# Altium integrated library Linear Technology Power Management Switching Regulator LT1074-LT8705.IntLib: 2252 symbols (part 77 of 148)
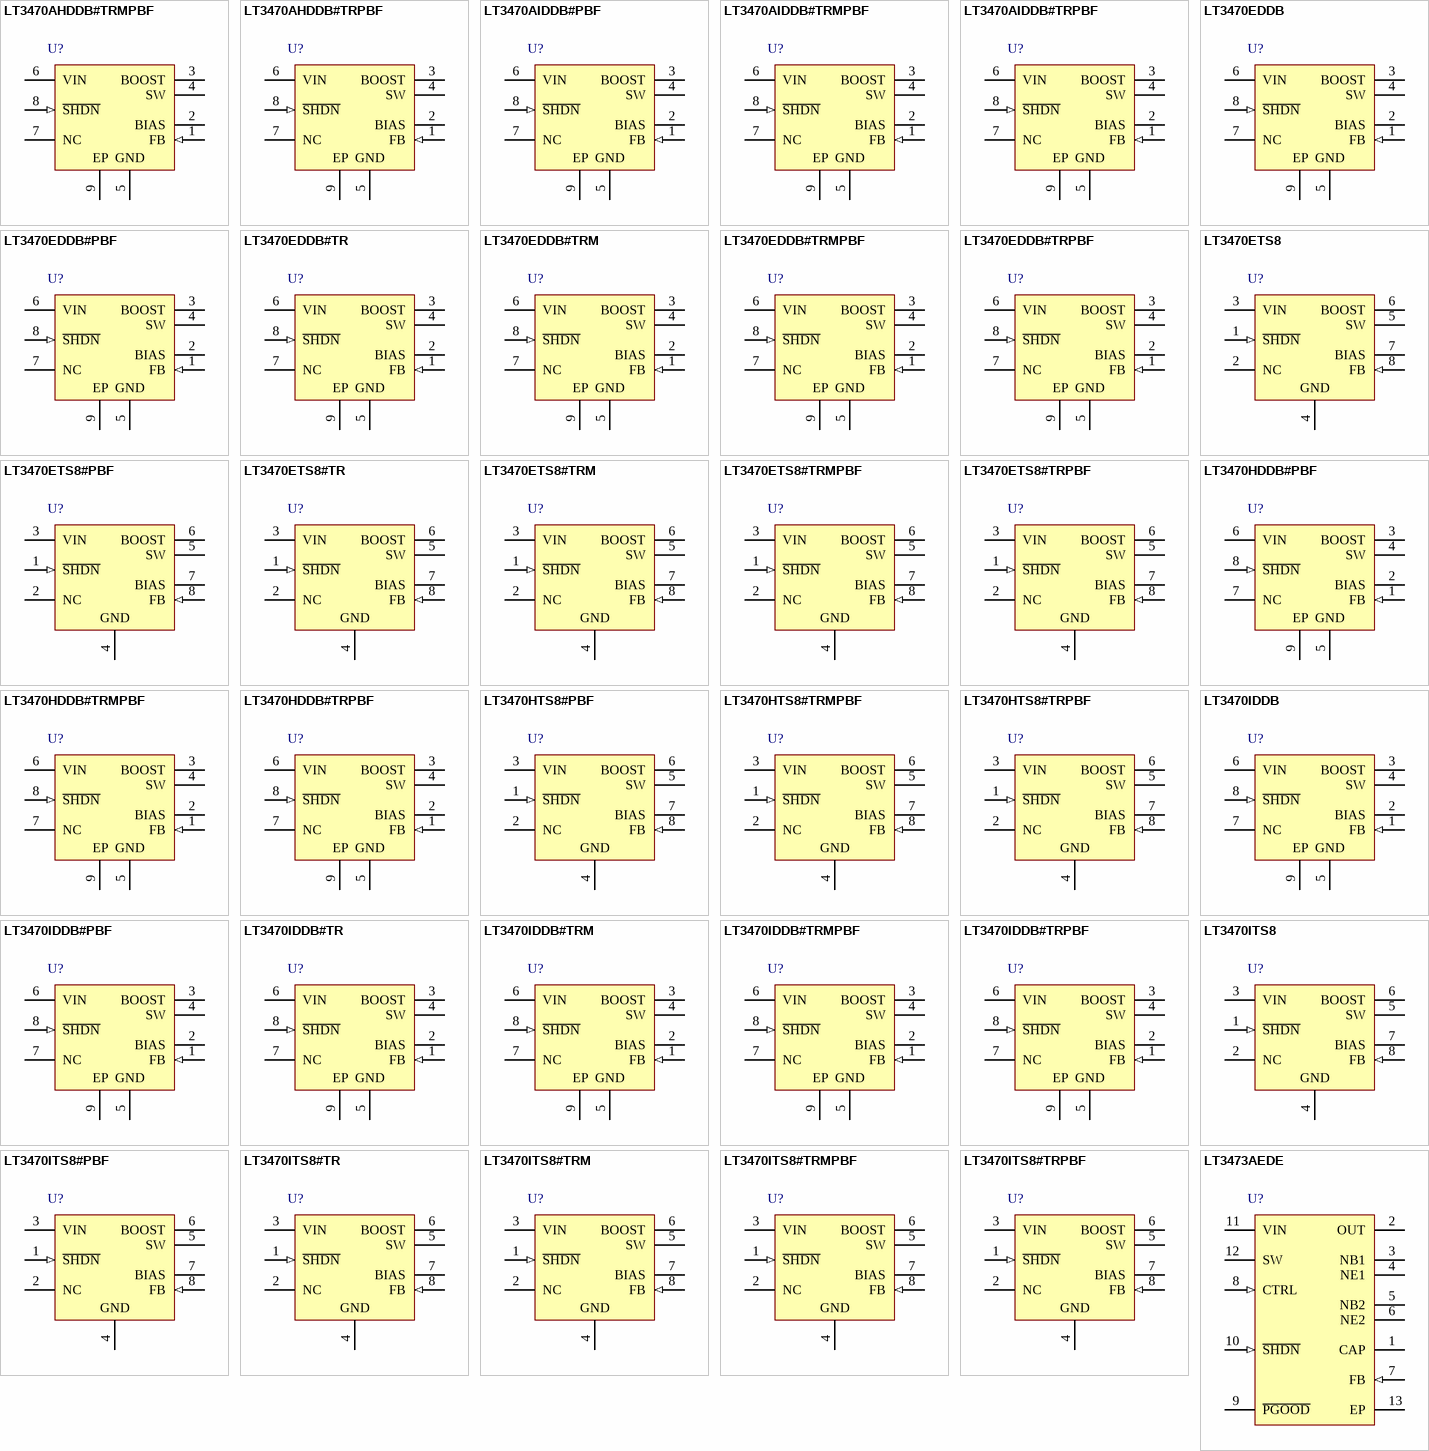
[diagram p147: symbols LT3470AHDDB#TRMPBF to LT3473AEDE]

## LT3470HTS8#PBF
designator U?
Micropower Buck Regulator with Integrated Boost and Catch Diode, 8-pin SOT23 (TS8-8), -40 to 150 degC, Pb-Free; Manufacturer: Linear Technology; PartNumber: LT3470HTS8#PBF; Number of Outputs: 1; DatasheetVersion: Rev. D; PackageVersion: Rev. A, 08/2010; PackageReference: TS8-8; PackageDescription: 8-Pin Plastic TSOT-23, Body 2.9 x 1.63 mm, Pitch 0.65 mm; Supplier 1: Newark; Supplier Part Number 1: 78T4007; RoHS: TRUE; Mounting Technology: Surface Mount; Code_JEDEC: MO-193; ComponentLink1Description: Manufacturer URL; ComponentLink1URL: http://www.linear.com/; ComponentLink2Description: Datasheet; ComponentLink2URL: http://cds.linear.com/docs/en/datasheet/3470fd.pdf; ComponentLink3Description: Package Specification; ComponentLink3URL: http://cds.linear.com/docs/en/packaging/SOT_8_05-08-1637.pdf
footprint LT-TS8-8-TSOT-23_V (SOT23, 8-Leads, Body 2.9x1.75mm, Pitch 0.65mm)
pins: 1 ~{SHDN} (in) "The S\H\D\N\ pin is used to put the LT3470 in shutdown mode. Tie to ground to shut down the LT3470A. Apply 2V or more for normal operation. If the shutdown feature is not used, tie this pin to the VIN pin.", 2 NC "This pin can be left floating, connected to VIN, or tied to GND.", 3 VIN (power) "The VIN pin supplies current to the LT3470’s internal regulator and to the internal power switch. This pin must be locally bypassed.", 4 GND (power) "Tie the GND pin to a local ground plane below the LT3470A and the circuit components. Return the feedback divider to this pin.", 5 SW (power) "The SW pin is the output of the internal power switch. Connect this pin to the inductor, catch diode and boost capacitor.", 6 BOOST "The BOOST pin is used to provide a drive voltage, which is higher than the input voltage, to the internal bipolar NPN power switch.", 7 BIAS (power) "The BIAS pin connects to the internal boost Schottky diode and to the internal regulator. Tie to VOUT when VOUT > 2.5V or to VIN otherwise. When VBIAS > 3V the BIAS pin will supply current to the internal regulator.", 8 FB (in) "The LT3470 regulates its feedback pin to 1.25V. Connect the feedback resistor divider tap to this pin. Set the output voltage according to VOUT = 1.25V (1 + R1/R2) or R1 = R2 (VOUT/1.25 - 1)."

## LT3470HTS8#TRMPBF
designator U?
Micropower Buck Regulator with Integrated Boost and Catch Diode, 8-pin SOT23 (TS8-8), -40 to 150 degC, Pb-Free, Mini Tape and Reel; Manufacturer: Linear Technology; PartNumber: LT3470HTS8#TRMPBF; Number of Outputs: 1; DatasheetVersion: Rev. D; PackageVersion: Rev. A, 08/2010; PackageReference: TS8-8; PackageDescription: 8-Pin Plastic TSOT-23, Body 2.9 x 1.63 mm, Pitch 0.65 mm; Supplier 1: Digi-Key; Supplier Part Number 1: LT3470HTS8#TRMPBF-ND; Supplier 2: Newark; Supplier Part Number 2: 57M8259; Packing: Mini Tape and Reel; RoHS: TRUE; Mounting Technology: Surface Mount; Code_JEDEC: MO-193; ComponentLink1Description: Manufacturer URL; ComponentLink1URL: http://www.linear.com/; ComponentLink2Description: Datasheet; ComponentLink2URL: http://cds.linear.com/docs/en/datasheet/3470fd.pdf; ComponentLink3Description: Package Specification; ComponentLink3URL: http://cds.linear.com/docs/en/packaging/SOT_8_05-08-1637.pdf
footprint LT-TS8-8-TSOT-23_V (SOT23, 8-Leads, Body 2.9x1.75mm, Pitch 0.65mm)
pins: 1 ~{SHDN} (in) "The S\H\D\N\ pin is used to put the LT3470 in shutdown mode. Tie to ground to shut down the LT3470A. Apply 2V or more for normal operation. If the shutdown feature is not used, tie this pin to the VIN pin.", 2 NC "This pin can be left floating, connected to VIN, or tied to GND.", 3 VIN (power) "The VIN pin supplies current to the LT3470’s internal regulator and to the internal power switch. This pin must be locally bypassed.", 4 GND (power) "Tie the GND pin to a local ground plane below the LT3470A and the circuit components. Return the feedback divider to this pin.", 5 SW (power) "The SW pin is the output of the internal power switch. Connect this pin to the inductor, catch diode and boost capacitor.", 6 BOOST "The BOOST pin is used to provide a drive voltage, which is higher than the input voltage, to the internal bipolar NPN power switch.", 7 BIAS (power) "The BIAS pin connects to the internal boost Schottky diode and to the internal regulator. Tie to VOUT when VOUT > 2.5V or to VIN otherwise. When VBIAS > 3V the BIAS pin will supply current to the internal regulator.", 8 FB (in) "The LT3470 regulates its feedback pin to 1.25V. Connect the feedback resistor divider tap to this pin. Set the output voltage according to VOUT = 1.25V (1 + R1/R2) or R1 = R2 (VOUT/1.25 - 1)."

## LT3470HTS8#TRPBF
designator U?
Micropower Buck Regulator with Integrated Boost and Catch Diode, 8-pin SOT23 (TS8-8), -40 to 150 degC, Pb-Free, Tape and Reel; Manufacturer: Linear Technology; PartNumber: LT3470HTS8#TRPBF; Number of Outputs: 1; DatasheetVersion: Rev. D; PackageVersion: Rev. A, 08/2010; PackageReference: TS8-8; PackageDescription: 8-Pin Plastic TSOT-23, Body 2.9 x 1.63 mm, Pitch 0.65 mm; Supplier 1: Digi-Key; Supplier Part Number 1: LT3470HTS8#TRPBF-ND; Packing: Tape and Reel; RoHS: TRUE; Mounting Technology: Surface Mount; Code_JEDEC: MO-193; ComponentLink1Description: Manufacturer URL; ComponentLink1URL: http://www.linear.com/; ComponentLink2Description: Datasheet; ComponentLink2URL: http://cds.linear.com/docs/en/datasheet/3470fd.pdf; ComponentLink3Description: Package Specification; ComponentLink3URL: http://cds.linear.com/docs/en/packaging/SOT_8_05-08-1637.pdf
footprint LT-TS8-8-TSOT-23_V (SOT23, 8-Leads, Body 2.9x1.75mm, Pitch 0.65mm)
pins: 1 ~{SHDN} (in) "The S\H\D\N\ pin is used to put the LT3470 in shutdown mode. Tie to ground to shut down the LT3470A. Apply 2V or more for normal operation. If the shutdown feature is not used, tie this pin to the VIN pin.", 2 NC "This pin can be left floating, connected to VIN, or tied to GND.", 3 VIN (power) "The VIN pin supplies current to the LT3470’s internal regulator and to the internal power switch. This pin must be locally bypassed.", 4 GND (power) "Tie the GND pin to a local ground plane below the LT3470A and the circuit components. Return the feedback divider to this pin.", 5 SW (power) "The SW pin is the output of the internal power switch. Connect this pin to the inductor, catch diode and boost capacitor.", 6 BOOST "The BOOST pin is used to provide a drive voltage, which is higher than the input voltage, to the internal bipolar NPN power switch.", 7 BIAS (power) "The BIAS pin connects to the internal boost Schottky diode and to the internal regulator. Tie to VOUT when VOUT > 2.5V or to VIN otherwise. When VBIAS > 3V the BIAS pin will supply current to the internal regulator.", 8 FB (in) "The LT3470 regulates its feedback pin to 1.25V. Connect the feedback resistor divider tap to this pin. Set the output voltage according to VOUT = 1.25V (1 + R1/R2) or R1 = R2 (VOUT/1.25 - 1)."

## LT3470IDDB
designator U?
Micropower Buck Regulator with Integrated Boost and Catch Diode, 8-pin SON (DDB-8), -40 to 125 degC; Manufacturer: Linear Technology; PartNumber: LT3470IDDB; Number of Outputs: 1; DatasheetVersion: Rev. D; PackageVersion: Rev. B, 06/2010; PackageReference: DDB-8; PackageDescription: 8-Pin Plastic DFN, Body 3 x 2 mm, Pitch 0.5 mm; RoHS: FALSE; Mounting Technology: Surface Mount; Code_JEDEC: MO-229; ComponentLink1Description: Manufacturer URL; ComponentLink1URL: http://www.linear.com/; ComponentLink2Description: Datasheet; ComponentLink2URL: http://cds.linear.com/docs/en/datasheet/3470fd.pdf; ComponentLink3Description: Package Specification; ComponentLink3URL: http://cds.linear.com/docs/en/packaging/DFN_8_05-08-1702.pdf
footprint LT-DDB-8_V (SON, 8-Leads, Body 3x2mm, Pitch 0.5mm, Thermal Pad 2.2x0.61mm)
pins: 1 FB (in) "The LT3470X regulates its feedback pin to 1.25V. Connect the feedback resistor divider tap to this pin. Set the output voltage according to VOUT = 1.25V (1 + R1/R2) or R1 = R2 (VOUT/1.25 - 1).", 2 BIAS (power) "The BIAS pin connects to the internal boost Schottky diode and to the internal regulator. Tie to VOUT when VOUT > 2.5V or to VIN otherwise. When VBIAS > 3V the BIAS pin will supply current to the internal regulator.", 3 BOOST "The BOOST pin is used to provide a drive voltage, which is higher than the input voltage, to the internal bipolar NPN power switch.", 4 SW (power) "The SW pin is the output of the internal power switch. Connect this pin to the inductor, catch diode and boost capacitor.", 5 GND (power) "Tie the GND pin to a local ground plane below the LT3470X and the circuit components. Return the feedback divider to this pin.", 6 VIN (power) "The VIN pin supplies current to the LT3470X’s internal regulator and to the internal power switch. This pin must be locally bypassed.", 7 NC "This pin can be left floating, connected to VIN, or tied to GND.", 8 ~{SHDN} (in) "The S\H\D\N\ pin is used to put the LT3470X in shutdown mode. Tie to ground to shut down the LT3470A. Apply 2V or more for normal operation. If the shutdown feature is not used, tie this pin to the VIN pin.", 9 EP (power) "Ground. Must be soldered to PCB."

## LT3470IDDB#PBF
designator U?
Micropower Buck Regulator with Integrated Boost and Catch Diode, 8-pin SON (DDB-8), -40 to 125 degC, Pb-Free; Manufacturer: Linear Technology; PartNumber: LT3470IDDB#PBF; Number of Outputs: 1; DatasheetVersion: Rev. D; PackageVersion: Rev. B, 06/2010; PackageReference: DDB-8; PackageDescription: 8-Pin Plastic DFN, Body 3 x 2 mm, Pitch 0.5 mm; RoHS: TRUE; Mounting Technology: Surface Mount; Code_JEDEC: MO-229; ComponentLink1Description: Manufacturer URL; ComponentLink1URL: http://www.linear.com/; ComponentLink2Description: Datasheet; ComponentLink2URL: http://cds.linear.com/docs/en/datasheet/3470fd.pdf; ComponentLink3Description: Package Specification; ComponentLink3URL: http://cds.linear.com/docs/en/packaging/DFN_8_05-08-1702.pdf
footprint LT-DDB-8_V (SON, 8-Leads, Body 3x2mm, Pitch 0.5mm, Thermal Pad 2.2x0.61mm)
pins: 1 FB (in) "The LT3470X regulates its feedback pin to 1.25V. Connect the feedback resistor divider tap to this pin. Set the output voltage according to VOUT = 1.25V (1 + R1/R2) or R1 = R2 (VOUT/1.25 - 1).", 2 BIAS (power) "The BIAS pin connects to the internal boost Schottky diode and to the internal regulator. Tie to VOUT when VOUT > 2.5V or to VIN otherwise. When VBIAS > 3V the BIAS pin will supply current to the internal regulator.", 3 BOOST "The BOOST pin is used to provide a drive voltage, which is higher than the input voltage, to the internal bipolar NPN power switch.", 4 SW (power) "The SW pin is the output of the internal power switch. Connect this pin to the inductor, catch diode and boost capacitor.", 5 GND (power) "Tie the GND pin to a local ground plane below the LT3470X and the circuit components. Return the feedback divider to this pin.", 6 VIN (power) "The VIN pin supplies current to the LT3470X’s internal regulator and to the internal power switch. This pin must be locally bypassed.", 7 NC "This pin can be left floating, connected to VIN, or tied to GND.", 8 ~{SHDN} (in) "The S\H\D\N\ pin is used to put the LT3470X in shutdown mode. Tie to ground to shut down the LT3470A. Apply 2V or more for normal operation. If the shutdown feature is not used, tie this pin to the VIN pin.", 9 EP (power) "Ground. Must be soldered to PCB."

## LT3470IDDB#TR
designator U?
Micropower Buck Regulator with Integrated Boost and Catch Diode, 8-pin SON (DDB-8), -40 to 125 degC, Tape and Reel; Manufacturer: Linear Technology; PartNumber: LT3470IDDB#TR; Number of Outputs: 1; DatasheetVersion: Rev. D; PackageVersion: Rev. B, 06/2010; PackageReference: DDB-8; PackageDescription: 8-Pin Plastic DFN, Body 3 x 2 mm, Pitch 0.5 mm; Packing: Tape and Reel; RoHS: FALSE; Mounting Technology: Surface Mount; Code_JEDEC: MO-229; ComponentLink1Description: Manufacturer URL; ComponentLink1URL: http://www.linear.com/; ComponentLink2Description: Datasheet; ComponentLink2URL: http://cds.linear.com/docs/en/datasheet/3470fd.pdf; ComponentLink3Description: Package Specification; ComponentLink3URL: http://cds.linear.com/docs/en/packaging/DFN_8_05-08-1702.pdf
footprint LT-DDB-8_V (SON, 8-Leads, Body 3x2mm, Pitch 0.5mm, Thermal Pad 2.2x0.61mm)
pins: 1 FB (in) "The LT3470X regulates its feedback pin to 1.25V. Connect the feedback resistor divider tap to this pin. Set the output voltage according to VOUT = 1.25V (1 + R1/R2) or R1 = R2 (VOUT/1.25 - 1).", 2 BIAS (power) "The BIAS pin connects to the internal boost Schottky diode and to the internal regulator. Tie to VOUT when VOUT > 2.5V or to VIN otherwise. When VBIAS > 3V the BIAS pin will supply current to the internal regulator.", 3 BOOST "The BOOST pin is used to provide a drive voltage, which is higher than the input voltage, to the internal bipolar NPN power switch.", 4 SW (power) "The SW pin is the output of the internal power switch. Connect this pin to the inductor, catch diode and boost capacitor.", 5 GND (power) "Tie the GND pin to a local ground plane below the LT3470X and the circuit components. Return the feedback divider to this pin.", 6 VIN (power) "The VIN pin supplies current to the LT3470X’s internal regulator and to the internal power switch. This pin must be locally bypassed.", 7 NC "This pin can be left floating, connected to VIN, or tied to GND.", 8 ~{SHDN} (in) "The S\H\D\N\ pin is used to put the LT3470X in shutdown mode. Tie to ground to shut down the LT3470A. Apply 2V or more for normal operation. If the shutdown feature is not used, tie this pin to the VIN pin.", 9 EP (power) "Ground. Must be soldered to PCB."

## LT3470IDDB#TRM
designator U?
Micropower Buck Regulator with Integrated Boost and Catch Diode, 8-pin SON (DDB-8), -40 to 125 degC, Mini Tape and Reel; Manufacturer: Linear Technology; PartNumber: LT3470IDDB#TRM; Number of Outputs: 1; DatasheetVersion: Rev. D; PackageVersion: Rev. B, 06/2010; PackageReference: DDB-8; PackageDescription: 8-Pin Plastic DFN, Body 3 x 2 mm, Pitch 0.5 mm; Packing: Mini Tape and Reel; RoHS: FALSE; Mounting Technology: Surface Mount; Code_JEDEC: MO-229; ComponentLink1Description: Manufacturer URL; ComponentLink1URL: http://www.linear.com/; ComponentLink2Description: Datasheet; ComponentLink2URL: http://cds.linear.com/docs/en/datasheet/3470fd.pdf; ComponentLink3Description: Package Specification; ComponentLink3URL: http://cds.linear.com/docs/en/packaging/DFN_8_05-08-1702.pdf
footprint LT-DDB-8_V (SON, 8-Leads, Body 3x2mm, Pitch 0.5mm, Thermal Pad 2.2x0.61mm)
pins: 1 FB (in) "The LT3470X regulates its feedback pin to 1.25V. Connect the feedback resistor divider tap to this pin. Set the output voltage according to VOUT = 1.25V (1 + R1/R2) or R1 = R2 (VOUT/1.25 - 1).", 2 BIAS (power) "The BIAS pin connects to the internal boost Schottky diode and to the internal regulator. Tie to VOUT when VOUT > 2.5V or to VIN otherwise. When VBIAS > 3V the BIAS pin will supply current to the internal regulator.", 3 BOOST "The BOOST pin is used to provide a drive voltage, which is higher than the input voltage, to the internal bipolar NPN power switch.", 4 SW (power) "The SW pin is the output of the internal power switch. Connect this pin to the inductor, catch diode and boost capacitor.", 5 GND (power) "Tie the GND pin to a local ground plane below the LT3470X and the circuit components. Return the feedback divider to this pin.", 6 VIN (power) "The VIN pin supplies current to the LT3470X’s internal regulator and to the internal power switch. This pin must be locally bypassed.", 7 NC "This pin can be left floating, connected to VIN, or tied to GND.", 8 ~{SHDN} (in) "The S\H\D\N\ pin is used to put the LT3470X in shutdown mode. Tie to ground to shut down the LT3470A. Apply 2V or more for normal operation. If the shutdown feature is not used, tie this pin to the VIN pin.", 9 EP (power) "Ground. Must be soldered to PCB."

## LT3470IDDB#TRMPBF
designator U?
Micropower Buck Regulator with Integrated Boost and Catch Diode, 8-pin SON (DDB-8), -40 to 125 degC, Pb-Free, Mini Tape and Reel; Manufacturer: Linear Technology; PartNumber: LT3470IDDB#TRMPBF; Number of Outputs: 1; DatasheetVersion: Rev. D; PackageVersion: Rev. B, 06/2010; PackageReference: DDB-8; PackageDescription: 8-Pin Plastic DFN, Body 3 x 2 mm, Pitch 0.5 mm; Supplier 1: Digi-Key; Supplier Part Number 1: LT3470IDDB#TRMPBFTR-ND; Supplier 2: Digi-Key; Supplier Part Number 2: LT3470IDDB#TRMPBFCT-ND; Supplier 3: Digi-Key; Supplier Part Number 3: LT3470IDDB#TRMPBFDKR-ND; Supplier 4: Newark; Supplier Part Number 4: 57M8263; Packing: Mini Tape and Reel; RoHS: TRUE; Mounting Technology: Surface Mount; Code_JEDEC: MO-229; ComponentLink1Description: Manufacturer URL; ComponentLink1URL: http://www.linear.com/; ComponentLink2Description: Datasheet; ComponentLink2URL: http://cds.linear.com/docs/en/datasheet/3470fd.pdf; ComponentLink3Description: Package Specification; ComponentLink3URL: http://cds.linear.com/docs/en/packaging/DFN_8_05-08-1702.pdf
footprint LT-DDB-8_V (SON, 8-Leads, Body 3x2mm, Pitch 0.5mm, Thermal Pad 2.2x0.61mm)
pins: 1 FB (in) "The LT3470X regulates its feedback pin to 1.25V. Connect the feedback resistor divider tap to this pin. Set the output voltage according to VOUT = 1.25V (1 + R1/R2) or R1 = R2 (VOUT/1.25 - 1).", 2 BIAS (power) "The BIAS pin connects to the internal boost Schottky diode and to the internal regulator. Tie to VOUT when VOUT > 2.5V or to VIN otherwise. When VBIAS > 3V the BIAS pin will supply current to the internal regulator.", 3 BOOST "The BOOST pin is used to provide a drive voltage, which is higher than the input voltage, to the internal bipolar NPN power switch.", 4 SW (power) "The SW pin is the output of the internal power switch. Connect this pin to the inductor, catch diode and boost capacitor.", 5 GND (power) "Tie the GND pin to a local ground plane below the LT3470X and the circuit components. Return the feedback divider to this pin.", 6 VIN (power) "The VIN pin supplies current to the LT3470X’s internal regulator and to the internal power switch. This pin must be locally bypassed.", 7 NC "This pin can be left floating, connected to VIN, or tied to GND.", 8 ~{SHDN} (in) "The S\H\D\N\ pin is used to put the LT3470X in shutdown mode. Tie to ground to shut down the LT3470A. Apply 2V or more for normal operation. If the shutdown feature is not used, tie this pin to the VIN pin.", 9 EP (power) "Ground. Must be soldered to PCB."

## LT3470IDDB#TRPBF
designator U?
Micropower Buck Regulator with Integrated Boost and Catch Diode, 8-pin SON (DDB-8), -40 to 125 degC, Pb-Free, Tape and Reel; Manufacturer: Linear Technology; PartNumber: LT3470IDDB#TRPBF; Number of Outputs: 1; DatasheetVersion: Rev. D; PackageVersion: Rev. B, 06/2010; PackageReference: DDB-8; PackageDescription: 8-Pin Plastic DFN, Body 3 x 2 mm, Pitch 0.5 mm; Supplier 1: Digi-Key; Supplier Part Number 1: LT3470IDDB#TRPBF-ND; Supplier 2: Newark; Supplier Part Number 2: 57M8264; Packing: Tape and Reel; RoHS: TRUE; Mounting Technology: Surface Mount; Code_JEDEC: MO-229; ComponentLink1Description: Manufacturer URL; ComponentLink1URL: http://www.linear.com/; ComponentLink2Description: Datasheet; ComponentLink2URL: http://cds.linear.com/docs/en/datasheet/3470fd.pdf; ComponentLink3Description: Package Specification; ComponentLink3URL: http://cds.linear.com/docs/en/packaging/DFN_8_05-08-1702.pdf
footprint LT-DDB-8_V (SON, 8-Leads, Body 3x2mm, Pitch 0.5mm, Thermal Pad 2.2x0.61mm)
pins: 1 FB (in) "The LT3470X regulates its feedback pin to 1.25V. Connect the feedback resistor divider tap to this pin. Set the output voltage according to VOUT = 1.25V (1 + R1/R2) or R1 = R2 (VOUT/1.25 - 1).", 2 BIAS (power) "The BIAS pin connects to the internal boost Schottky diode and to the internal regulator. Tie to VOUT when VOUT > 2.5V or to VIN otherwise. When VBIAS > 3V the BIAS pin will supply current to the internal regulator.", 3 BOOST "The BOOST pin is used to provide a drive voltage, which is higher than the input voltage, to the internal bipolar NPN power switch.", 4 SW (power) "The SW pin is the output of the internal power switch. Connect this pin to the inductor, catch diode and boost capacitor.", 5 GND (power) "Tie the GND pin to a local ground plane below the LT3470X and the circuit components. Return the feedback divider to this pin.", 6 VIN (power) "The VIN pin supplies current to the LT3470X’s internal regulator and to the internal power switch. This pin must be locally bypassed.", 7 NC "This pin can be left floating, connected to VIN, or tied to GND.", 8 ~{SHDN} (in) "The S\H\D\N\ pin is used to put the LT3470X in shutdown mode. Tie to ground to shut down the LT3470A. Apply 2V or more for normal operation. If the shutdown feature is not used, tie this pin to the VIN pin.", 9 EP (power) "Ground. Must be soldered to PCB."

## LT3470ITS8
designator U?
Micropower Buck Regulator with Integrated Boost and Catch Diode, 8-pin SOT23 (TS8-8), -40 to 125 degC; Manufacturer: Linear Technology; PartNumber: LT3470ITS8; Number of Outputs: 1; DatasheetVersion: Rev. D; PackageVersion: Rev. A, 08/2010; PackageReference: TS8-8; PackageDescription: 8-Pin Plastic TSOT-23, Body 2.9 x 1.63 mm, Pitch 0.65 mm; RoHS: FALSE; Mounting Technology: Surface Mount; Code_JEDEC: MO-193; ComponentLink1Description: Manufacturer URL; ComponentLink1URL: http://www.linear.com/; ComponentLink2Description: Datasheet; ComponentLink2URL: http://cds.linear.com/docs/en/datasheet/3470fd.pdf; ComponentLink3Description: Package Specification; ComponentLink3URL: http://cds.linear.com/docs/en/packaging/SOT_8_05-08-1637.pdf
footprint LT-TS8-8-TSOT-23_V (SOT23, 8-Leads, Body 2.9x1.75mm, Pitch 0.65mm)
pins: 1 ~{SHDN} (in) "The S\H\D\N\ pin is used to put the LT3470 in shutdown mode. Tie to ground to shut down the LT3470A. Apply 2V or more for normal operation. If the shutdown feature is not used, tie this pin to the VIN pin.", 2 NC "This pin can be left floating, connected to VIN, or tied to GND.", 3 VIN (power) "The VIN pin supplies current to the LT3470’s internal regulator and to the internal power switch. This pin must be locally bypassed.", 4 GND (power) "Tie the GND pin to a local ground plane below the LT3470A and the circuit components. Return the feedback divider to this pin.", 5 SW (power) "The SW pin is the output of the internal power switch. Connect this pin to the inductor, catch diode and boost capacitor.", 6 BOOST "The BOOST pin is used to provide a drive voltage, which is higher than the input voltage, to the internal bipolar NPN power switch.", 7 BIAS (power) "The BIAS pin connects to the internal boost Schottky diode and to the internal regulator. Tie to VOUT when VOUT > 2.5V or to VIN otherwise. When VBIAS > 3V the BIAS pin will supply current to the internal regulator.", 8 FB (in) "The LT3470 regulates its feedback pin to 1.25V. Connect the feedback resistor divider tap to this pin. Set the output voltage according to VOUT = 1.25V (1 + R1/R2) or R1 = R2 (VOUT/1.25 - 1)."

## LT3470ITS8#PBF
designator U?
Micropower Buck Regulator with Integrated Boost and Catch Diode, 8-pin SOT23 (TS8-8), -40 to 125 degC, Pb-Free; Manufacturer: Linear Technology; PartNumber: LT3470ITS8#PBF; Number of Outputs: 1; DatasheetVersion: Rev. D; PackageVersion: Rev. A, 08/2010; PackageReference: TS8-8; PackageDescription: 8-Pin Plastic TSOT-23, Body 2.9 x 1.63 mm, Pitch 0.65 mm; Supplier 1: Newark; Supplier Part Number 1: 61M3375; RoHS: TRUE; Mounting Technology: Surface Mount; Code_JEDEC: MO-193; ComponentLink1Description: Manufacturer URL; ComponentLink1URL: http://www.linear.com/; ComponentLink2Description: Datasheet; ComponentLink2URL: http://cds.linear.com/docs/en/datasheet/3470fd.pdf; ComponentLink3Description: Package Specification; ComponentLink3URL: http://cds.linear.com/docs/en/packaging/SOT_8_05-08-1637.pdf
footprint LT-TS8-8-TSOT-23_V (SOT23, 8-Leads, Body 2.9x1.75mm, Pitch 0.65mm)
pins: 1 ~{SHDN} (in) "The S\H\D\N\ pin is used to put the LT3470 in shutdown mode. Tie to ground to shut down the LT3470A. Apply 2V or more for normal operation. If the shutdown feature is not used, tie this pin to the VIN pin.", 2 NC "This pin can be left floating, connected to VIN, or tied to GND.", 3 VIN (power) "The VIN pin supplies current to the LT3470’s internal regulator and to the internal power switch. This pin must be locally bypassed.", 4 GND (power) "Tie the GND pin to a local ground plane below the LT3470A and the circuit components. Return the feedback divider to this pin.", 5 SW (power) "The SW pin is the output of the internal power switch. Connect this pin to the inductor, catch diode and boost capacitor.", 6 BOOST "The BOOST pin is used to provide a drive voltage, which is higher than the input voltage, to the internal bipolar NPN power switch.", 7 BIAS (power) "The BIAS pin connects to the internal boost Schottky diode and to the internal regulator. Tie to VOUT when VOUT > 2.5V or to VIN otherwise. When VBIAS > 3V the BIAS pin will supply current to the internal regulator.", 8 FB (in) "The LT3470 regulates its feedback pin to 1.25V. Connect the feedback resistor divider tap to this pin. Set the output voltage according to VOUT = 1.25V (1 + R1/R2) or R1 = R2 (VOUT/1.25 - 1)."

## LT3470ITS8#TR
designator U?
Micropower Buck Regulator with Integrated Boost and Catch Diode, 8-pin SOT23 (TS8-8), -40 to 125 degC, Tape and Reel; Manufacturer: Linear Technology; PartNumber: LT3470ITS8#TR; Number of Outputs: 1; DatasheetVersion: Rev. D; PackageVersion: Rev. A, 08/2010; PackageReference: TS8-8; PackageDescription: 8-Pin Plastic TSOT-23, Body 2.9 x 1.63 mm, Pitch 0.65 mm; Packing: Tape and Reel; RoHS: FALSE; Mounting Technology: Surface Mount; Code_JEDEC: MO-193; ComponentLink1Description: Manufacturer URL; ComponentLink1URL: http://www.linear.com/; ComponentLink2Description: Datasheet; ComponentLink2URL: http://cds.linear.com/docs/en/datasheet/3470fd.pdf; ComponentLink3Description: Package Specification; ComponentLink3URL: http://cds.linear.com/docs/en/packaging/SOT_8_05-08-1637.pdf
footprint LT-TS8-8-TSOT-23_V (SOT23, 8-Leads, Body 2.9x1.75mm, Pitch 0.65mm)
pins: 1 ~{SHDN} (in) "The S\H\D\N\ pin is used to put the LT3470 in shutdown mode. Tie to ground to shut down the LT3470A. Apply 2V or more for normal operation. If the shutdown feature is not used, tie this pin to the VIN pin.", 2 NC "This pin can be left floating, connected to VIN, or tied to GND.", 3 VIN (power) "The VIN pin supplies current to the LT3470’s internal regulator and to the internal power switch. This pin must be locally bypassed.", 4 GND (power) "Tie the GND pin to a local ground plane below the LT3470A and the circuit components. Return the feedback divider to this pin.", 5 SW (power) "The SW pin is the output of the internal power switch. Connect this pin to the inductor, catch diode and boost capacitor.", 6 BOOST "The BOOST pin is used to provide a drive voltage, which is higher than the input voltage, to the internal bipolar NPN power switch.", 7 BIAS (power) "The BIAS pin connects to the internal boost Schottky diode and to the internal regulator. Tie to VOUT when VOUT > 2.5V or to VIN otherwise. When VBIAS > 3V the BIAS pin will supply current to the internal regulator.", 8 FB (in) "The LT3470 regulates its feedback pin to 1.25V. Connect the feedback resistor divider tap to this pin. Set the output voltage according to VOUT = 1.25V (1 + R1/R2) or R1 = R2 (VOUT/1.25 - 1)."

## LT3470ITS8#TRM
designator U?
Micropower Buck Regulator with Integrated Boost and Catch Diode, 8-pin SOT23 (TS8-8), -40 to 125 degC, Mini Tape and Reel; Manufacturer: Linear Technology; PartNumber: LT3470ITS8#TRM; Number of Outputs: 1; DatasheetVersion: Rev. D; PackageVersion: Rev. A, 08/2010; PackageReference: TS8-8; PackageDescription: 8-Pin Plastic TSOT-23, Body 2.9 x 1.63 mm, Pitch 0.65 mm; Packing: Mini Tape and Reel; RoHS: FALSE; Mounting Technology: Surface Mount; Code_JEDEC: MO-193; ComponentLink1Description: Manufacturer URL; ComponentLink1URL: http://www.linear.com/; ComponentLink2Description: Datasheet; ComponentLink2URL: http://cds.linear.com/docs/en/datasheet/3470fd.pdf; ComponentLink3Description: Package Specification; ComponentLink3URL: http://cds.linear.com/docs/en/packaging/SOT_8_05-08-1637.pdf
footprint LT-TS8-8-TSOT-23_V (SOT23, 8-Leads, Body 2.9x1.75mm, Pitch 0.65mm)
pins: 1 ~{SHDN} (in) "The S\H\D\N\ pin is used to put the LT3470 in shutdown mode. Tie to ground to shut down the LT3470A. Apply 2V or more for normal operation. If the shutdown feature is not used, tie this pin to the VIN pin.", 2 NC "This pin can be left floating, connected to VIN, or tied to GND.", 3 VIN (power) "The VIN pin supplies current to the LT3470’s internal regulator and to the internal power switch. This pin must be locally bypassed.", 4 GND (power) "Tie the GND pin to a local ground plane below the LT3470A and the circuit components. Return the feedback divider to this pin.", 5 SW (power) "The SW pin is the output of the internal power switch. Connect this pin to the inductor, catch diode and boost capacitor.", 6 BOOST "The BOOST pin is used to provide a drive voltage, which is higher than the input voltage, to the internal bipolar NPN power switch.", 7 BIAS (power) "The BIAS pin connects to the internal boost Schottky diode and to the internal regulator. Tie to VOUT when VOUT > 2.5V or to VIN otherwise. When VBIAS > 3V the BIAS pin will supply current to the internal regulator.", 8 FB (in) "The LT3470 regulates its feedback pin to 1.25V. Connect the feedback resistor divider tap to this pin. Set the output voltage according to VOUT = 1.25V (1 + R1/R2) or R1 = R2 (VOUT/1.25 - 1)."

## LT3470ITS8#TRMPBF
designator U?
Micropower Buck Regulator with Integrated Boost and Catch Diode, 8-pin SOT23 (TS8-8), -40 to 125 degC, Pb-Free, Mini Tape and Reel; Manufacturer: Linear Technology; PartNumber: LT3470ITS8#TRMPBF; Number of Outputs: 1; DatasheetVersion: Rev. D; PackageVersion: Rev. A, 08/2010; PackageReference: TS8-8; PackageDescription: 8-Pin Plastic TSOT-23, Body 2.9 x 1.63 mm, Pitch 0.65 mm; Supplier 1: Digi-Key; Supplier Part Number 1: LT3470ITS8#TRMPBFTR-ND; Supplier 2: Digi-Key; Supplier Part Number 2: LT3470ITS8#TRMPBFCT-ND; Supplier 3: Digi-Key; Supplier Part Number 3: LT3470ITS8#TRMPBFDKR-ND; Supplier 4: Farnell; Supplier Part Number 4: 1663833; Supplier 5: Farnell; Supplier Part Number 5: 1663833RL; Supplier 6: Newark; Supplier Part Number 6: 57M8267; Packing: Mini Tape and Reel; RoHS: TRUE; Mounting Technology: Surface Mount; Code_JEDEC: MO-193; ComponentLink1Description: Manufacturer URL; ComponentLink1URL: http://www.linear.com/; ComponentLink2Description: Datasheet; ComponentLink2URL: http://cds.linear.com/docs/en/datasheet/3470fd.pdf; ComponentLink3Description: Package Specification; ComponentLink3URL: http://cds.linear.com/docs/en/packaging/SOT_8_05-08-1637.pdf
footprint LT-TS8-8-TSOT-23_V (SOT23, 8-Leads, Body 2.9x1.75mm, Pitch 0.65mm)
pins: 1 ~{SHDN} (in) "The S\H\D\N\ pin is used to put the LT3470 in shutdown mode. Tie to ground to shut down the LT3470A. Apply 2V or more for normal operation. If the shutdown feature is not used, tie this pin to the VIN pin.", 2 NC "This pin can be left floating, connected to VIN, or tied to GND.", 3 VIN (power) "The VIN pin supplies current to the LT3470’s internal regulator and to the internal power switch. This pin must be locally bypassed.", 4 GND (power) "Tie the GND pin to a local ground plane below the LT3470A and the circuit components. Return the feedback divider to this pin.", 5 SW (power) "The SW pin is the output of the internal power switch. Connect this pin to the inductor, catch diode and boost capacitor.", 6 BOOST "The BOOST pin is used to provide a drive voltage, which is higher than the input voltage, to the internal bipolar NPN power switch.", 7 BIAS (power) "The BIAS pin connects to the internal boost Schottky diode and to the internal regulator. Tie to VOUT when VOUT > 2.5V or to VIN otherwise. When VBIAS > 3V the BIAS pin will supply current to the internal regulator.", 8 FB (in) "The LT3470 regulates its feedback pin to 1.25V. Connect the feedback resistor divider tap to this pin. Set the output voltage according to VOUT = 1.25V (1 + R1/R2) or R1 = R2 (VOUT/1.25 - 1)."

## LT3470ITS8#TRPBF
designator U?
Micropower Buck Regulator with Integrated Boost and Catch Diode, 8-pin SOT23 (TS8-8), -40 to 125 degC, Pb-Free, Tape and Reel; Manufacturer: Linear Technology; PartNumber: LT3470ITS8#TRPBF; Number of Outputs: 1; DatasheetVersion: Rev. D; PackageVersion: Rev. A, 08/2010; PackageReference: TS8-8; PackageDescription: 8-Pin Plastic TSOT-23, Body 2.9 x 1.63 mm, Pitch 0.65 mm; Supplier 1: Digi-Key; Supplier Part Number 1: LT3470ITS8#TRPBF-ND; Supplier 2: Newark; Supplier Part Number 2: 57M8268; Packing: Tape and Reel; RoHS: TRUE; Mounting Technology: Surface Mount; Code_JEDEC: MO-193; ComponentLink1Description: Manufacturer URL; ComponentLink1URL: http://www.linear.com/; ComponentLink2Description: Datasheet; ComponentLink2URL: http://cds.linear.com/docs/en/datasheet/3470fd.pdf; ComponentLink3Description: Package Specification; ComponentLink3URL: http://cds.linear.com/docs/en/packaging/SOT_8_05-08-1637.pdf
footprint LT-TS8-8-TSOT-23_V (SOT23, 8-Leads, Body 2.9x1.75mm, Pitch 0.65mm)
pins: 1 ~{SHDN} (in) "The S\H\D\N\ pin is used to put the LT3470 in shutdown mode. Tie to ground to shut down the LT3470A. Apply 2V or more for normal operation. If the shutdown feature is not used, tie this pin to the VIN pin.", 2 NC "This pin can be left floating, connected to VIN, or tied to GND.", 3 VIN (power) "The VIN pin supplies current to the LT3470’s internal regulator and to the internal power switch. This pin must be locally bypassed.", 4 GND (power) "Tie the GND pin to a local ground plane below the LT3470A and the circuit components. Return the feedback divider to this pin.", 5 SW (power) "The SW pin is the output of the internal power switch. Connect this pin to the inductor, catch diode and boost capacitor.", 6 BOOST "The BOOST pin is used to provide a drive voltage, which is higher than the input voltage, to the internal bipolar NPN power switch.", 7 BIAS (power) "The BIAS pin connects to the internal boost Schottky diode and to the internal regulator. Tie to VOUT when VOUT > 2.5V or to VIN otherwise. When VBIAS > 3V the BIAS pin will supply current to the internal regulator.", 8 FB (in) "The LT3470 regulates its feedback pin to 1.25V. Connect the feedback resistor divider tap to this pin. Set the output voltage according to VOUT = 1.25V (1 + R1/R2) or R1 = R2 (VOUT/1.25 - 1)."

## LT3473AEDE
designator U?
Micropower 1 A Boost Converter with Schottky and Output Disconnect, Includes Two NPN Transistors for Generating Intermediate Bias Voltage Max, 12-pin SON (DE-12), -40 to 85 degC; Manufacturer: Linear Technology; PartNumber: LT3473AEDE; Number of Outputs: 1; PackageReference: DE-12; PackageDescription: 12-Pin Plastic DFN, Body 4 x 3 mm, Pitch 0.5 mm; RoHS: FALSE; Mounting Technology: Surface Mount; Code_JEDEC: MO-229; ComponentLink1Description: Manufacturer URL; ComponentLink1URL: http://www.linear.com/; ComponentLink2Description: Datasheet; ComponentLink2URL: http://cds.linear.com/docs/en/datasheet/3473f.pdf; ComponentLink3Description: Package Specification; ComponentLink3URL: http://cds.linear.com/docs/en/datasheet/3473f.pdf
footprint LT-DE-12-05-08-1708_V (SON, 12-Leads, Body 4x3mm, Pitch 0.5mm, Thermal Pad 3.3x1.7mm)
pins: 1 CAP "Internal Output Voltage. This pin is the Schottky cathode and disconnect PNP emitter. Connect output capacitor here.", 2 OUT "Output of Disconnect Circuit. Bypass this pin with capacitor to ground.", 3 NB1 "NPN1 Base.", 4 NE1 "NPN1 Emitter.", 5 NB2 "NPN2 Base.", 6 NE2 "NPN2 Emitter.", 7 FB (in) "Feedback Pin. Pin voltage is regulated to 1.25V if internal reference is used or to the CTRL pin voltage if the CTRL pin voltage is between 0V and 1.25V. Connect the fee", 8 CTRL (in) "External Reference Pin. This pin sets the FB voltage externally between 0V and 1.25V. Tie this pin 1.5V or higher to use the internal 1.25V reference.", 9 ~{PGOOD} (oc) "Power Good Output. Open collector logic output that starts to sink current when FB reaches within 100mV of the reference voltage.", 10 ~{SHDN} (in) "Shutdown Pin. Connect to 1.4V or higher to enable device; 0.2V or less to disable device. Also functions as soft-start. Use RC filter as shown in Figure 4.", 11 VIN (power) "Input Supply Pin. Must be locally bypassed with a X5R or X7R type ceramic capacitor.", 12 SW "Switch Pin. Connect inductor here. Minimize the metal trace area connected to the pin to minimize EMI.", 13 EP (power) "Ground. Solder directly to PCB ground plane through multiple vias under the package for optimum thermal performance."

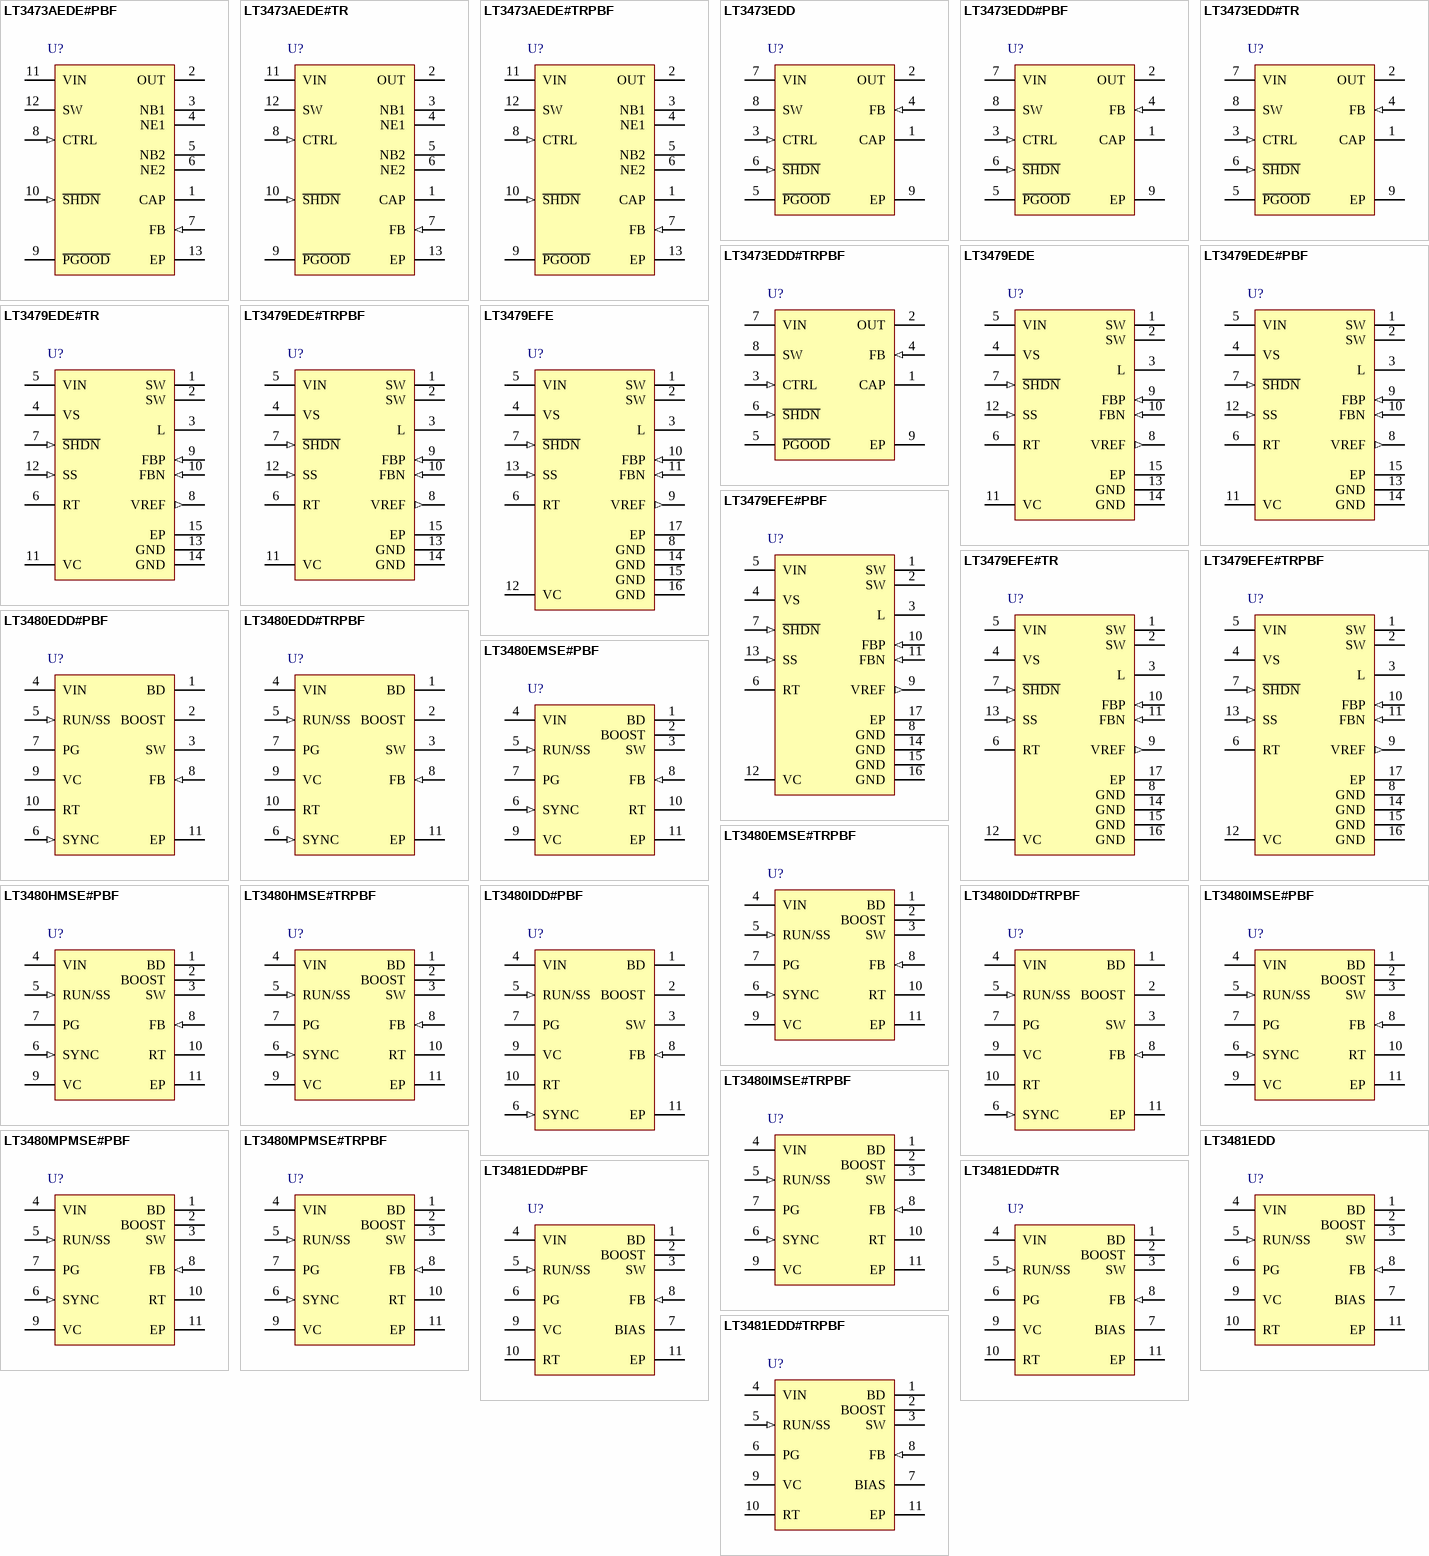
[diagram p39: symbols LT3473AEDE#PBF to LT3481EDD#TRPBF]

## LT3473AEDE#PBF
designator U?
Micropower 1 A Boost Converter with Schottky and Output Disconnect, Includes Two NPN Transistors for Generating Intermediate Bias Voltage Max, 12-pin SON (DE-12), -40 to 85 degC, Pb-Free; Manufacturer: Linear Technology; PartNumber: LT3473AEDE#PBF; Number of Outputs: 1; PackageReference: DE-12; PackageDescription: 12-Pin Plastic DFN, Body 4 x 3 mm, Pitch 0.5 mm; Supplier 1: Digi-Key; Supplier Part Number 1: LT3473AEDE#PBF-ND; RoHS: TRUE; Mounting Technology: Surface Mount; Code_JEDEC: MO-229; ComponentLink1Description: Manufacturer URL; ComponentLink1URL: http://www.linear.com/; ComponentLink2Description: Datasheet; ComponentLink2URL: http://cds.linear.com/docs/en/datasheet/3473f.pdf; ComponentLink3Description: Package Specification; ComponentLink3URL: http://cds.linear.com/docs/en/datasheet/3473f.pdf
footprint LT-DE-12-05-08-1708_V (SON, 12-Leads, Body 4x3mm, Pitch 0.5mm, Thermal Pad 3.3x1.7mm)
pins: 1 CAP "Internal Output Voltage. This pin is the Schottky cathode and disconnect PNP emitter. Connect output capacitor here.", 2 OUT "Output of Disconnect Circuit. Bypass this pin with capacitor to ground.", 3 NB1 "NPN1 Base.", 4 NE1 "NPN1 Emitter.", 5 NB2 "NPN2 Base.", 6 NE2 "NPN2 Emitter.", 7 FB (in) "Feedback Pin. Pin voltage is regulated to 1.25V if internal reference is used or to the CTRL pin voltage if the CTRL pin voltage is between 0V and 1.25V. Connect the fee", 8 CTRL (in) "External Reference Pin. This pin sets the FB voltage externally between 0V and 1.25V. Tie this pin 1.5V or higher to use the internal 1.25V reference.", 9 ~{PGOOD} (oc) "Power Good Output. Open collector logic output that starts to sink current when FB reaches within 100mV of the reference voltage.", 10 ~{SHDN} (in) "Shutdown Pin. Connect to 1.4V or higher to enable device; 0.2V or less to disable device. Also functions as soft-start. Use RC filter as shown in Figure 4.", 11 VIN (power) "Input Supply Pin. Must be locally bypassed with a X5R or X7R type ceramic capacitor.", 12 SW "Switch Pin. Connect inductor here. Minimize the metal trace area connected to the pin to minimize EMI.", 13 EP (power) "Ground. Solder directly to PCB ground plane through multiple vias under the package for optimum thermal performance."

## LT3473AEDE#TR
designator U?
Micropower 1 A Boost Converter with Schottky and Output Disconnect, Includes Two NPN Transistors for Generating Intermediate Bias Voltage Max, 12-pin SON (DE-12), -40 to 85 degC, Tape and Reel; Manufacturer: Linear Technology; PartNumber: LT3473AEDE#TR; Number of Outputs: 1; PackageReference: DE-12; PackageDescription: 12-Pin Plastic DFN, Body 4 x 3 mm, Pitch 0.5 mm; Packing: Tape and Reel; RoHS: FALSE; Mounting Technology: Surface Mount; Code_JEDEC: MO-229; ComponentLink1Description: Manufacturer URL; ComponentLink1URL: http://www.linear.com/; ComponentLink2Description: Datasheet; ComponentLink2URL: http://cds.linear.com/docs/en/datasheet/3473f.pdf; ComponentLink3Description: Package Specification; ComponentLink3URL: http://cds.linear.com/docs/en/datasheet/3473f.pdf
footprint LT-DE-12-05-08-1708_V (SON, 12-Leads, Body 4x3mm, Pitch 0.5mm, Thermal Pad 3.3x1.7mm)
pins: 1 CAP "Internal Output Voltage. This pin is the Schottky cathode and disconnect PNP emitter. Connect output capacitor here.", 2 OUT "Output of Disconnect Circuit. Bypass this pin with capacitor to ground.", 3 NB1 "NPN1 Base.", 4 NE1 "NPN1 Emitter.", 5 NB2 "NPN2 Base.", 6 NE2 "NPN2 Emitter.", 7 FB (in) "Feedback Pin. Pin voltage is regulated to 1.25V if internal reference is used or to the CTRL pin voltage if the CTRL pin voltage is between 0V and 1.25V. Connect the fee", 8 CTRL (in) "External Reference Pin. This pin sets the FB voltage externally between 0V and 1.25V. Tie this pin 1.5V or higher to use the internal 1.25V reference.", 9 ~{PGOOD} (oc) "Power Good Output. Open collector logic output that starts to sink current when FB reaches within 100mV of the reference voltage.", 10 ~{SHDN} (in) "Shutdown Pin. Connect to 1.4V or higher to enable device; 0.2V or less to disable device. Also functions as soft-start. Use RC filter as shown in Figure 4.", 11 VIN (power) "Input Supply Pin. Must be locally bypassed with a X5R or X7R type ceramic capacitor.", 12 SW "Switch Pin. Connect inductor here. Minimize the metal trace area connected to the pin to minimize EMI.", 13 EP (power) "Ground. Solder directly to PCB ground plane through multiple vias under the package for optimum thermal performance."

## LT3473AEDE#TRPBF
designator U?
Micropower 1 A Boost Converter with Schottky and Output Disconnect, Includes Two NPN Transistors for Generating Intermediate Bias Voltage Max, 12-pin SON (DE-12), -40 to 85 degC, Pb-Free, Tape and Reel; Manufacturer: Linear Technology; PartNumber: LT3473AEDE#TRPBF; Number of Outputs: 1; PackageReference: DE-12; PackageDescription: 12-Pin Plastic DFN, Body 4 x 3 mm, Pitch 0.5 mm; Supplier 1: Digi-Key; Supplier Part Number 1: LT3473AEDE#TRPBF-ND; Packing: Tape and Reel; RoHS: TRUE; Mounting Technology: Surface Mount; Code_JEDEC: MO-229; ComponentLink1Description: Manufacturer URL; ComponentLink1URL: http://www.linear.com/; ComponentLink2Description: Datasheet; ComponentLink2URL: http://cds.linear.com/docs/en/datasheet/3473f.pdf; ComponentLink3Description: Package Specification; ComponentLink3URL: http://cds.linear.com/docs/en/datasheet/3473f.pdf
footprint LT-DE-12-05-08-1708_V (SON, 12-Leads, Body 4x3mm, Pitch 0.5mm, Thermal Pad 3.3x1.7mm)
pins: 1 CAP "Internal Output Voltage. This pin is the Schottky cathode and disconnect PNP emitter. Connect output capacitor here.", 2 OUT "Output of Disconnect Circuit. Bypass this pin with capacitor to ground.", 3 NB1 "NPN1 Base.", 4 NE1 "NPN1 Emitter.", 5 NB2 "NPN2 Base.", 6 NE2 "NPN2 Emitter.", 7 FB (in) "Feedback Pin. Pin voltage is regulated to 1.25V if internal reference is used or to the CTRL pin voltage if the CTRL pin voltage is between 0V and 1.25V. Connect the fee", 8 CTRL (in) "External Reference Pin. This pin sets the FB voltage externally between 0V and 1.25V. Tie this pin 1.5V or higher to use the internal 1.25V reference.", 9 ~{PGOOD} (oc) "Power Good Output. Open collector logic output that starts to sink current when FB reaches within 100mV of the reference voltage.", 10 ~{SHDN} (in) "Shutdown Pin. Connect to 1.4V or higher to enable device; 0.2V or less to disable device. Also functions as soft-start. Use RC filter as shown in Figure 4.", 11 VIN (power) "Input Supply Pin. Must be locally bypassed with a X5R or X7R type ceramic capacitor.", 12 SW "Switch Pin. Connect inductor here. Minimize the metal trace area connected to the pin to minimize EMI.", 13 EP (power) "Ground. Solder directly to PCB ground plane through multiple vias under the package for optimum thermal performance."

## LT3473EDD
designator U?
Micropower 1 A Boost Converter with Schottky and Output Disconnect Max, 8-pin SON (DD-8), -40 to 85 degC; Manufacturer: Linear Technology; PartNumber: LT3473EDD; Number of Outputs: 1; PackageVersion: Jun-10; PackageReference: DD-8; PackageDescription: 8-Pin Plastic DFN, Body 3 x 3 mm, Pitch 0.5 mm; RoHS: FALSE; Mounting Technology: Surface Mount; Code_JEDEC: MO-229; ComponentLink1Description: Manufacturer URL; ComponentLink1URL: http://www.linear.com/; ComponentLink2Description: Datasheet; ComponentLink2URL: http://cds.linear.com/docs/en/datasheet/3473f.pdf; ComponentLink3Description: Package Specification; ComponentLink3URL: http://cds.linear.com/docs/en/packaging/DFN_8_05-08-1698.pdf
footprint LT-DD-8_V (SON, 8-Leads, Body 3x3mm, Pitch 0.5mm, Thermal Pad 1.65x2.38 mm)
pins: 1 CAP "Internal Output Voltage. This pin is the Schottky cathode and disconnect PNP emitter. Connect output capacitor here.", 2 OUT (power) "Output of Disconnect Circuit. Bypass this pin with capacitor to ground.", 3 CTRL (in) "External Reference Pin. This pin sets the FB voltage externally between 0V and 1.25V. Tie this pin 1.5V or higher to use the internal 1.25V reference.", 4 FB (in) "Feedback Pin. Pin voltage is regulated to 1.25V if internal reference is used or to the CTRL pin voltage if the CTRL pin voltage is between 0V and 1.25V. Connect the feedback resistor divider to this pin.", 5 ~{PGOOD} (oc) "Power Good Output. Open collector logic output that starts to sink current when FB reaches within 100mV of the reference voltage.", 6 ~{SHDN} (in) "Shutdown Pin. Connect to 1.4V or higher to enable device; 0.2V or less to disable device. Also functions as soft-start. Use RC filter as shown in Figure 4.", 7 VIN (power) "Input Supply Pin. Must be locally bypassed with a X5R or X7R type ceramic capacitor.", 8 SW "Switch Pin. Connect inductor here. Minimize the metal trace area connected to the pin to minimize EMI.", 9 EP (power) "Ground. Solder directly to PCB ground plane through multiple vias under the package for optimum thermal performance."

## LT3473EDD#PBF
designator U?
Micropower 1 A Boost Converter with Schottky and Output Disconnect Max, 8-pin SON (DD-8), -40 to 85 degC, Pb-Free; Manufacturer: Linear Technology; PartNumber: LT3473EDD#PBF; Number of Outputs: 1; PackageVersion: Jun-10; PackageReference: DD-8; PackageDescription: 8-Pin Plastic DFN, Body 3 x 3 mm, Pitch 0.5 mm; Supplier 1: Digi-Key; Supplier Part Number 1: LT3473EDD#PBF-ND; Supplier 2: Farnell; Supplier Part Number 2: 1663558; Supplier 3: Newark; Supplier Part Number 3: 57M8282; RoHS: TRUE; Mounting Technology: Surface Mount; Code_JEDEC: MO-229; ComponentLink1Description: Manufacturer URL; ComponentLink1URL: http://www.linear.com/; ComponentLink2Description: Datasheet; ComponentLink2URL: http://cds.linear.com/docs/en/datasheet/3473f.pdf; ComponentLink3Description: Package Specification; ComponentLink3URL: http://cds.linear.com/docs/en/packaging/DFN_8_05-08-1698.pdf
footprint LT-DD-8_V (SON, 8-Leads, Body 3x3mm, Pitch 0.5mm, Thermal Pad 1.65x2.38 mm)
pins: 1 CAP "Internal Output Voltage. This pin is the Schottky cathode and disconnect PNP emitter. Connect output capacitor here.", 2 OUT (power) "Output of Disconnect Circuit. Bypass this pin with capacitor to ground.", 3 CTRL (in) "External Reference Pin. This pin sets the FB voltage externally between 0V and 1.25V. Tie this pin 1.5V or higher to use the internal 1.25V reference.", 4 FB (in) "Feedback Pin. Pin voltage is regulated to 1.25V if internal reference is used or to the CTRL pin voltage if the CTRL pin voltage is between 0V and 1.25V. Connect the feedback resistor divider to this pin.", 5 ~{PGOOD} (oc) "Power Good Output. Open collector logic output that starts to sink current when FB reaches within 100mV of the reference voltage.", 6 ~{SHDN} (in) "Shutdown Pin. Connect to 1.4V or higher to enable device; 0.2V or less to disable device. Also functions as soft-start. Use RC filter as shown in Figure 4.", 7 VIN (power) "Input Supply Pin. Must be locally bypassed with a X5R or X7R type ceramic capacitor.", 8 SW "Switch Pin. Connect inductor here. Minimize the metal trace area connected to the pin to minimize EMI.", 9 EP (power) "Ground. Solder directly to PCB ground plane through multiple vias under the package for optimum thermal performance."